# Altium schematic symbol library DIODE_SCHOTTKY.Schlib: 1 symbol
Pins are listed as number, name and electrical type; pins without a type are passive.

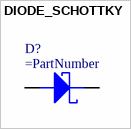
[diagram p0: symbol DIODE_SCHOTTKY]

## DIODE_SCHOTTKY
designator D?
DIODE SCHOTTKY
pins: 1 CATHODE, 2 ANODE